# Altium integrated library CRG0603ZR.IntLib: 1 symbol
Pins are listed as number, name and electrical type; pins without a type are passive.

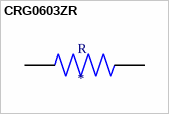
[diagram p0: symbol CRG0603ZR]

## CRG0603ZR
designator R
CRG0603 ZEROHM; Tolerance: 0%; MP: CRG0603ZR; Voltage_Rating: 50 V; Power_Rating: .1 W; MF: TE Connectivity; Resistance: 0; Price: None; Value: *; EU_RoHS_Compliance: Compliant with Exemptions; Package: 0603; TE_purchase_URL: https://www.te.com/usa-en/product-1623094-1.html?te_bu=Cor&te_type=disp&te_campaign=seda_glo_cor-seda-global-disp-prtnr-fy19-seda-model-bom-cta_sma-317_1&elqCampaignId=32493; SnapEDA_Link: https://www.snapeda.com/parts/CRG0603ZR/TE%20Connectivity%20Passive%20Product/view-part/977849/?ref=snap; Availability: Unavailable
footprint RESC1608X55N
pins: 1, 2